# EAGLE library part NAU8402 (library schematic)
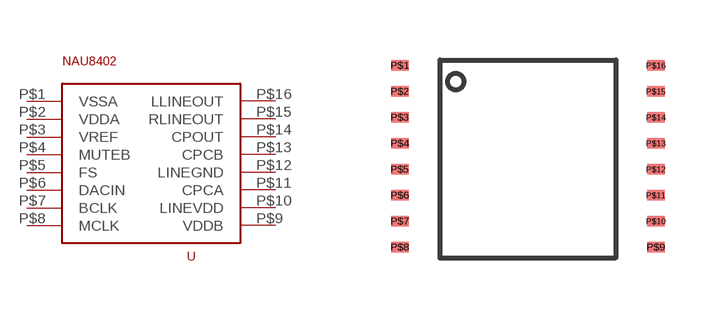
[diagram p12: symbol with the pads of NAU8402; footprint NAU8402]

Designator prefix -

## NAU8402  [NAU8402]
P$1  VSSA
P$2  VDDA
P$3  VREF
P$4  MUTEB
P$5  FS
P$6  DACIN
P$7  BCLK
P$8  MCLK
P$9  VDDB
P$10  LINEVDD
P$11  CPCA
P$12  LINEGND
P$13  CPCB
P$14  CPOUT
P$15  RLINEOUT
P$16  LLINEOUT

## Footprint NAU8402 (pad centres in mm)
smd 0.44 x 0.26: P$1 0,0; P$2 0,-0.65; P$3 0,-1.3; P$4 0,-1.95; P$5 0,-2.6; P$6 0,-3.25; P$7 0,-3.9; P$8 0,-4.55; P$9 6.4,-4.55; P$10 6.4,-3.9; P$11 6.4,-3.25; P$12 6.4,-2.6; P$13 6.4,-1.95; P$14 6.4,-1.3; P$15 6.4,-0.65; P$16 6.4,0